# Altium schematic symbol library LPC1752.SchLib: 1 symbol
Pins are listed as number, name and electrical type; pins without a type are passive.

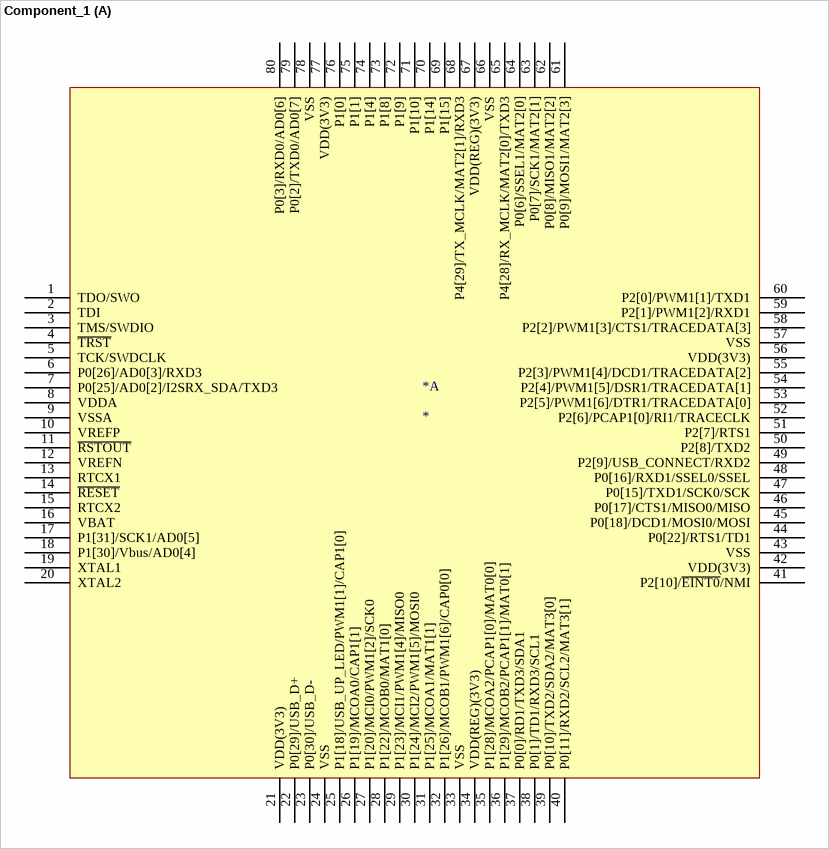
[diagram p0: symbol Component_1]

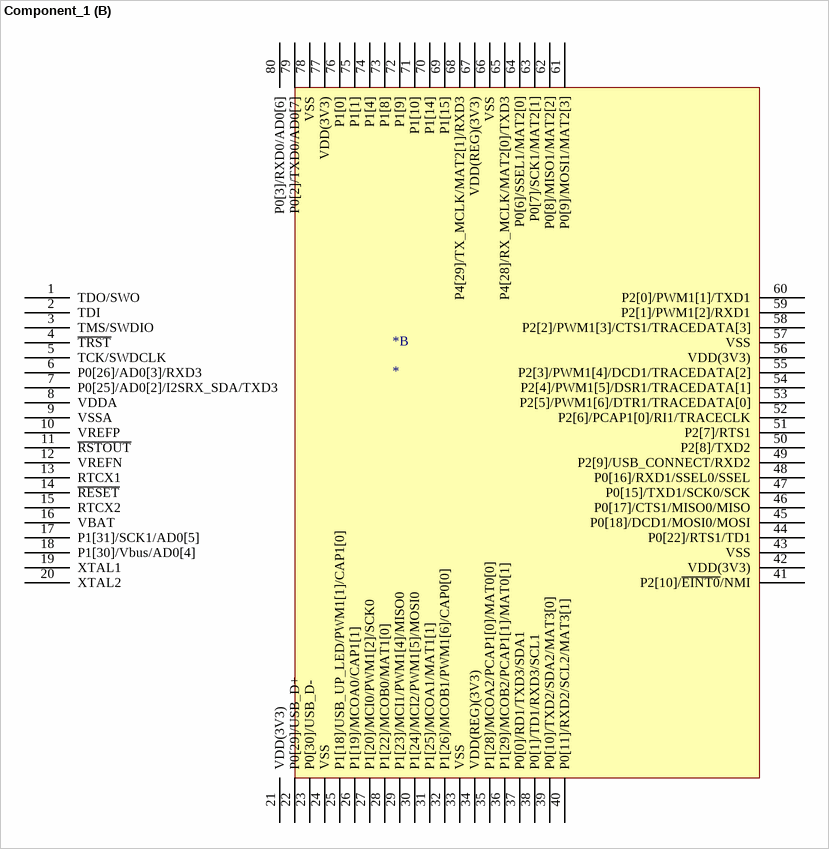
[diagram p1: symbol Component_1]

## Component_1
designator *
part A pins: 1 TDO/SWO, 2 TDI, 3 TMS/SWDIO, 4 ~{TRST}, 5 TCK/SWDCLK, 6 P0[26]/AD0[3]/RXD3, 7 P0[25]/AD0[2]/I2SRX_SDA/TXD3, 8 VDDA, 9 VSSA, 10 VREFP, 11 ~{RSTOUT}, 12 VREFN, 13 RTCX1, 14 ~{RESET}, 15 RTCX2, 16 VBAT, 17 P1[31]/SCK1/AD0[5], 18 P1[30]/Vbus/AD0[4], 19 XTAL1, 20 XTAL2, 21 VDD(3V3) (power), 22 P0[29]/USB_D+ (power), 23 P0[30]/USB_D- (power), 24 VSS, 25 P1[18]/USB_UP_LED/PWM1[1]/CAP1[0], 26 P1[19]/MCOA0/CAP1[1], 27 P1[20]/MCI0/PWM1[2]/SCK0, 28 P1[22]/MCOB0/MAT1[0], 29 P1[23]/MCI1/PWM1[4]/MISO0, 30 P1[24]/MCI2/PWM1[5]/MOSI0, 31 P1[25]/MCOA1/MAT1[1], 32 P1[26]/MCOB1/PWM1[6]/CAP0[0], 33 VSS, 34 VDD(REG)(3V3), 35 P1[28]/MCOA2/PCAP1[0]/MAT0[0], 36 P1[29]/MCOB2/PCAP1[1]/MAT0[1], 37 P0[0]/RD1/TXD3/SDA1, 38 P0[1]/TD1/RXD3/SCL1, 39 P0[10]/TXD2/SDA2/MAT3[0], 40 P0[11]/RXD2/SCL2/MAT3[1], 41 P2[10]/~{EINT0}/NMI, 42 VDD(3V3), 43 VSS, 44 P0[22]/RTS1/TD1, 45 P0[18]/DCD1/MOSI0/MOSI, 46 P0[17]/CTS1/MISO0/MISO, 47 P0[15]/TXD1/SCK0/SCK, 48 P0[16]/RXD1/SSEL0/SSEL, 49 P2[9]/USB_CONNECT/RXD2, 50 P2[8]/TXD2, 51 P2[7]/RTS1, 52 P2[6]/PCAP1[0]/RI1/TRACECLK, 53 P2[5]/PWM1[6]/DTR1/TRACEDATA[0], 54 P2[4]/PWM1[5]/DSR1/TRACEDATA[1], 55 P2[3]/PWM1[4]/DCD1/TRACEDATA[2], 56 VDD(3V3), 57 VSS, 58 P2[2]/PWM1[3]/CTS1/TRACEDATA[3], 59 P2[1]/PWM1[2]/RXD1, 60 P2[0]/PWM1[1]/TXD1, 61 P0[9]/MOSI1/MAT2[3], 62 P0[8]/MISO1/MAT2[2], 63 P0[7]/SCK1/MAT2[1], 64 P0[6]/SSEL1/MAT2[0], 65 P4[28]/RX_MCLK/MAT2[0]/TXD3, 66 VSS, 67 VDD(REG)(3V3), 68 P4[29]/TX_MCLK/MAT2[1]/RXD3, 69 P1[15], 70 P1[14], 71 P1[10], 72 P1[9], 73 P1[8], 74 P1[4], 75 P1[1], 76 P1[0], 77 VDD(3V3), 78 VSS, 79 P0[2]/TXD0/AD0[7], 80 P0[3]/RXD0/AD0[6]
part B pins: 1 TDO/SWO, 2 TDI, 3 TMS/SWDIO, 4 ~{TRST}, 5 TCK/SWDCLK, 6 P0[26]/AD0[3]/RXD3, 7 P0[25]/AD0[2]/I2SRX_SDA/TXD3, 8 VDDA, 9 VSSA, 10 VREFP, 11 ~{RSTOUT}, 12 VREFN, 13 RTCX1, 14 ~{RESET}, 15 RTCX2, 16 VBAT, 17 P1[31]/SCK1/AD0[5], 18 P1[30]/Vbus/AD0[4], 19 XTAL1, 20 XTAL2, 21 VDD(3V3) (power), 22 P0[29]/USB_D+ (power), 23 P0[30]/USB_D- (power), 24 VSS, 25 P1[18]/USB_UP_LED/PWM1[1]/CAP1[0], 26 P1[19]/MCOA0/CAP1[1], 27 P1[20]/MCI0/PWM1[2]/SCK0, 28 P1[22]/MCOB0/MAT1[0], 29 P1[23]/MCI1/PWM1[4]/MISO0, 30 P1[24]/MCI2/PWM1[5]/MOSI0, 31 P1[25]/MCOA1/MAT1[1], 32 P1[26]/MCOB1/PWM1[6]/CAP0[0], 33 VSS, 34 VDD(REG)(3V3), 35 P1[28]/MCOA2/PCAP1[0]/MAT0[0], 36 P1[29]/MCOB2/PCAP1[1]/MAT0[1], 37 P0[0]/RD1/TXD3/SDA1, 38 P0[1]/TD1/RXD3/SCL1, 39 P0[10]/TXD2/SDA2/MAT3[0], 40 P0[11]/RXD2/SCL2/MAT3[1], 41 P2[10]/~{EINT0}/NMI, 42 VDD(3V3), 43 VSS, 44 P0[22]/RTS1/TD1, 45 P0[18]/DCD1/MOSI0/MOSI, 46 P0[17]/CTS1/MISO0/MISO, 47 P0[15]/TXD1/SCK0/SCK, 48 P0[16]/RXD1/SSEL0/SSEL, 49 P2[9]/USB_CONNECT/RXD2, 50 P2[8]/TXD2, 51 P2[7]/RTS1, 52 P2[6]/PCAP1[0]/RI1/TRACECLK, 53 P2[5]/PWM1[6]/DTR1/TRACEDATA[0], 54 P2[4]/PWM1[5]/DSR1/TRACEDATA[1], 55 P2[3]/PWM1[4]/DCD1/TRACEDATA[2], 56 VDD(3V3), 57 VSS, 58 P2[2]/PWM1[3]/CTS1/TRACEDATA[3], 59 P2[1]/PWM1[2]/RXD1, 60 P2[0]/PWM1[1]/TXD1, 61 P0[9]/MOSI1/MAT2[3], 62 P0[8]/MISO1/MAT2[2], 63 P0[7]/SCK1/MAT2[1], 64 P0[6]/SSEL1/MAT2[0], 65 P4[28]/RX_MCLK/MAT2[0]/TXD3, 66 VSS, 67 VDD(REG)(3V3), 68 P4[29]/TX_MCLK/MAT2[1]/RXD3, 69 P1[15], 70 P1[14], 71 P1[10], 72 P1[9], 73 P1[8], 74 P1[4], 75 P1[1], 76 P1[0], 77 VDD(3V3), 78 VSS, 79 P0[2]/TXD0/AD0[7], 80 P0[3]/RXD0/AD0[6]